# Altium footprint library HZK_Connectors.PcbLib: 26 footprints (part 1 of 2)
Each footprint in its own frame and in the unit in brackets; x right, y up, seen from the top. Pads: shape width x height; smd on the part's side, far side on the other; paste and mask are expansions set on the pad; w line width, h text height; cw(c..) or ccw(c..) is an arc to the next point about the centre after c.
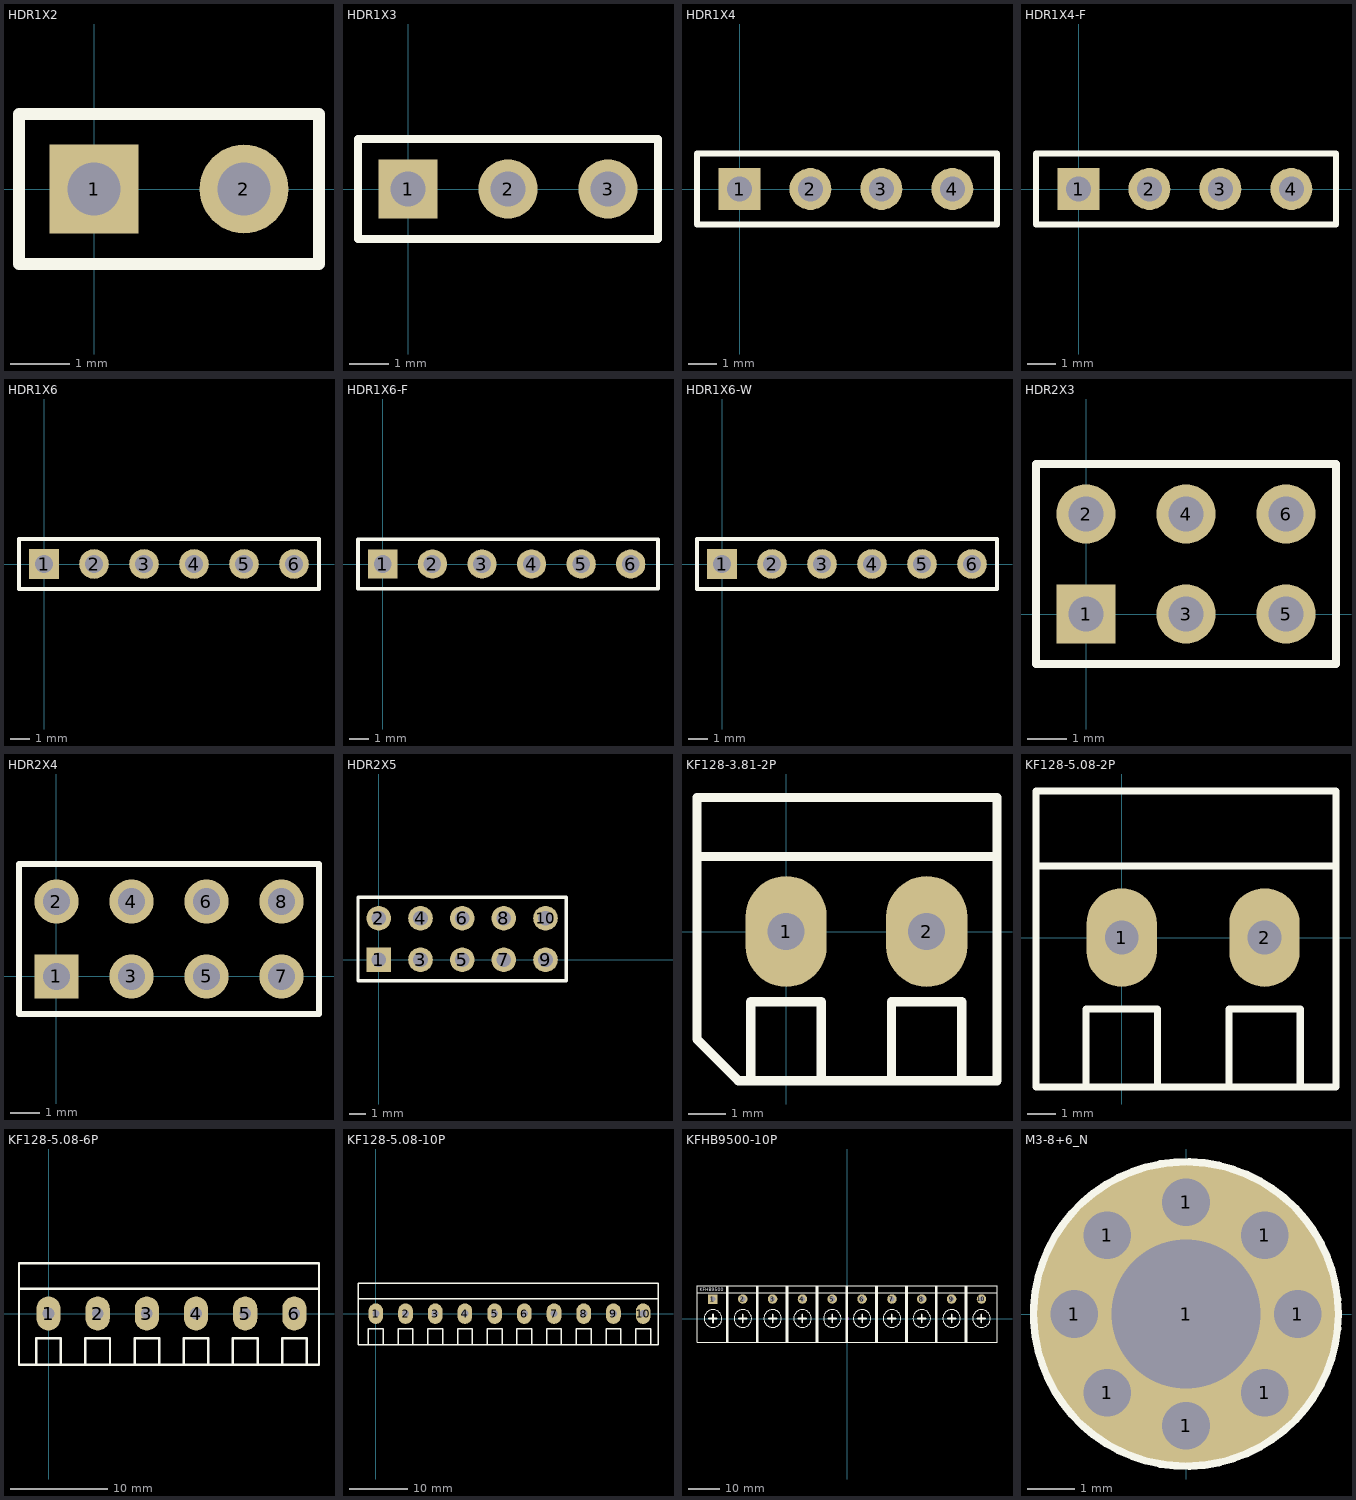
[diagram p0: the footprints below, top view; thin cyan lines are the x and y axes]

## HDR1X2 [mm]
pads (2):
  rect 1.5x1.5 hole 0.9: 1(0,0)
  round 1.5 hole 0.9: 2(2.54,0)
Top Overlay:
  lines w0.2: -1.27,-1.27 3.81,-1.27 3.81,1.27 -1.27,1.27 -1.27,-1.27
3D body "Header 2x1 2.54mm（?": height 2.57, standoff -8.97, extent -1.27,-1.27 3.81,1.27

## HDR1X3 [mm]
pads (3):
  rect 1.5x1.5 hole 0.9: 1(0,0)
  round 1.5 hole 0.9: 2(2.54,0) 3(5.08,0)
Top Overlay:
  lines w0.2: -1.27,-1.27 -1.27,1.27 6.35,1.27 6.35,-1.27 -1.27,-1.27
3D body "Header 3x1 2.54mm（?": height 2.57, standoff -8.97, extent -1.27,-1.27 6.35,1.27

## HDR1X4 [mm]
pads (4):
  rect 1.5x1.5 hole 0.9: 1(0,0)
  round 1.5 hole 0.9: 2(2.54,0) 3(5.08,0) 4(7.62,0)
Top Overlay:
  lines w0.2: -1.524,-1.27 9.22,-1.27 9.22,1.27 -1.524,1.27 -1.524,-1.27
3D body "Header 4x1 2.54mm（?": height 8.57, standoff -2.97, extent -1.27,-1.27 8.89,1.27

## HDR1X4-F [mm]
pads (4):
  rect 1.5x1.5 hole 0.9: 1(0,0)
  round 1.5 hole 0.9: 2(2.54,0) 3(5.08,0) 4(7.62,0)
Top Overlay:
  lines w0.2: -1.524,-1.27 9.22,-1.27 9.22,1.27 -1.524,1.27 -1.524,-1.27
3D body "Header 4x1 2.54mm Female Socket （?": height 8.45, standoff -3.15, extent -1.491,-1.25 9.169,1.25

## HDR1X6 [mm]
pads (6):
  rect 1.5x1.5 hole 0.9: 1(0,0)
  round 1.5 hole 0.9: 2(2.54,0) 3(5.08,0) 4(7.62,0) 5(10.16,0) 6(12.7,0)
Top Overlay:
  lines w0.2: -1.27,-1.27 -1.27,1.27 13.97,1.27 13.97,-1.27 -1.27,-1.27
3D body "Header 6x1 2.54mm（?": height 8.58, standoff -2.96, extent -1.27,-1.27 13.97,1.27

## HDR1X6-F [mm]
pads (6):
  rect 1.5x1.5 hole 0.9: 1(0,0)
  round 1.5 hole 0.9: 2(2.54,0) 3(5.08,0) 4(7.62,0) 5(10.16,0) 6(12.7,0)
Top Overlay:
  lines w0.2: -1.27,-1.27 -1.27,1.27 14.097,1.27 14.097,-1.27 -1.27,-1.27
3D body "Header 6x1 2.54mm Female Socket （?": height 8.55, standoff -3.06, extent -1.465,-1.281 14.275,1.219

## HDR1X6-W [mm]
pads (6):
  rect 1.5x1.5 hole 0.9: 1(0,0)
  round 1.5 hole 0.9: 2(2.54,0) 3(5.08,0) 4(7.62,0) 5(10.16,0) 6(12.7,0)
Top Overlay:
  lines w0.2: -1.27,-1.27 13.97,-1.27 13.97,1.27 -1.27,1.27 -1.27,-1.27
3D body "Header 6x1 2.54mm-Wan（?": height 2.57, standoff -2.97, extent -1.245,-0.33 13.995,10.03

## HDR2X3 [mm]
pads (6):
  rect 1.5x1.5 hole 0.9: 1(0,0)
  round 1.5 hole 0.9: 2(0,2.54) 3(2.54,0) 4(2.54,2.54) 5(5.08,0) 6(5.08,2.54)
Top Overlay:
  lines w0.2: -1.27,-1.27 6.35,-1.27 6.35,3.81 -1.27,3.81 -1.27,-1.27
3D body "Header 3x2 2.54mm（?": height 8.54, standoff -3, extent -1.27,-1.27 6.35,3.81

## HDR2X4 [mm]
pads (8):
  rect 1.5x1.5 hole 0.9: 1(0,0)
  round 1.5 hole 0.9: 2(0,2.54) 3(2.54,0) 4(2.54,2.54) 5(5.08,0) 6(5.08,2.54) 7(7.62,0) 8(7.62,2.54)
Top Overlay:
  lines w0.2: -1.27,-1.27 -1.27,3.81 8.89,3.81 8.89,-1.27 -1.27,-1.27
3D body "Header 4x2 2.54mm（?": height 8.54, standoff -3, extent -1.27,-1.27 8.89,3.81

## HDR2X5 [mm]
pads (10):
  rect 1.5x1.5 hole 0.9: 1(0,0)
  round 1.5 hole 0.9: 2(0,2.54) 3(2.54,0) 4(2.54,2.54) 5(5.08,0) 6(5.08,2.54) 7(7.62,0) 8(7.62,2.54) 9(10.16,0) 10(10.16,2.54)
Top Overlay:
  lines w0.2: -1.27,-1.27 -1.27,3.81 11.43,3.81 11.43,-1.27 -1.27,-1.27
3D body "Header 5x2 2.54mm（?": height 8.54, standoff -3, extent -1.27,-1.27 11.43,3.81

## KF128-3.81-2P [mm] "螺钉式接线端子，脚距3.81mm"
pads (2):
  oval 2.2x3 hole 1: 1(0,0) 2(3.81,0)
Top Overlay:
  lines w0.254: -2.413,2.032 5.715,2.032 ; -0.953,-4.039 -0.953,-1.905 0.953,-1.905 0.953,-4.039 ; 2.857,-4.039 2.857,-1.905 4.763,-1.905 4.763,-4.039 ; -2.413,-2.921 -2.413,3.632 5.715,3.632 5.715,-4.039 -1.295,-4.039 -2.413,-2.921
3D body "KF128.STEP": height 8.55, standoff -3.95, extent 1.405,-3.9 5.715,3.5
3D body "KF128.STEP": height 8.55, standoff -3.95, extent -2.405,-3.9 1.905,3.5

## KF128-5.08-2P [mm] "螺钉式接线端子，脚距5.08mm"
pads (2):
  oval 2.5x3.5 hole 1.2: 1(0,0) 2(5.08,0)
Top Overlay:
  lines w0.254: -3.048,2.54 7.62,2.54 ; -1.27,-5.309 -1.27,-2.54 1.27,-2.54 1.27,-5.309 ; 3.81,-5.309 3.81,-2.54 6.35,-2.54 6.35,-5.309 ; -3.048,-5.309 7.62,-5.309 7.62,5.207 -3.048,5.207 -3.048,-5.309
3D body "KF128-5.08.STEP": height 14.15, standoff -3.95, extent 2.04,-5.3 7.62,5.2
3D body "KF128-5.08.STEP": height 14.15, standoff -3.95, extent -3.04,-5.3 2.54,5.2

## KF128-5.08-6P [mm] "螺钉式接线端子，脚距5.08mm"
pads (6):
  oval 2.5x3.5 hole 1.2: 1(0,0) 2(5.08,0) 3(10.16,0) 4(15.24,0) 5(20.32,0) 6(25.4,0)
Top Overlay:
  lines w0.254: -3.048,2.54 27.94,2.54 ; -1.27,-5.309 -1.27,-2.54 1.27,-2.54 1.27,-5.309 ; 3.81,-5.309 3.81,-2.54 6.35,-2.54 6.35,-5.309 ; 8.89,-5.309 8.89,-2.54 11.43,-2.54 11.43,-5.309 ; 13.97,-5.309 13.97,-2.54 16.51,-2.54 16.51,-5.309 ; 19.05,-5.309 19.05,-2.54 21.59,-2.54 21.59,-5.309 ; 24.13,-5.309 24.13,-2.54 26.67,-2.54 26.67,-5.309 ; -3.048,-5.309 -3.048,5.207 27.94,5.207 27.94,-5.309 -3.048,-5.309
3D body "KF128-5.08.STEP": height 14.15, standoff -3.95, extent 22.36,-5.3 27.94,5.2
3D body "KF128-5.08.STEP": height 14.15, standoff -3.95, extent 7.12,-5.3 12.7,5.2
3D body "KF128-5.08.STEP": height 14.15, standoff -3.95, extent -3.04,-5.3 2.54,5.2
3D body "KF128-5.08.STEP": height 14.15, standoff -3.95, extent 2.04,-5.3 7.62,5.2
3D body "KF128-5.08.STEP": height 14.15, standoff -3.95, extent 12.2,-5.3 17.78,5.2
3D body "KF128-5.08.STEP": height 14.15, standoff -3.95, extent 17.28,-5.3 22.86,5.2

## KF128-5.08-10P [mm] "螺钉式接线端子，脚距5.08mm"
pads (10):
  oval 2.5x3.5 hole 1.2: 1(0,0) 2(5.08,0) 3(10.16,0) 4(15.24,0) 5(20.32,0) 6(25.4,0) 7(30.48,0) 8(35.56,0) 9(40.64,0) 10(45.72,0)
Top Overlay:
  lines w0.254: -3.048,2.54 48.26,2.54 ; -1.27,-5.309 -1.27,-2.54 1.27,-2.54 1.27,-5.309 ; 3.81,-5.309 3.81,-2.54 6.35,-2.54 6.35,-5.309 ; 8.89,-5.309 8.89,-2.54 11.43,-2.54 11.43,-5.309 ; 13.97,-5.309 13.97,-2.54 16.51,-2.54 16.51,-5.309 ; 19.05,-5.309 19.05,-2.54 21.59,-2.54 21.59,-5.309 ; 24.13,-5.309 24.13,-2.54 26.67,-2.54 26.67,-5.309 ; 29.21,-5.309 29.21,-2.54 31.75,-2.54 31.75,-5.309 ; 34.29,-5.309 34.29,-2.54 36.83,-2.54 36.83,-5.309 ; 39.37,-5.309 39.37,-2.54 41.91,-2.54 41.91,-5.309 ; 44.45,-5.309 44.45,-2.54 46.99,-2.54 46.99,-5.309 ; -3.048,-5.309 -3.048,5.207 48.26,5.207 48.26,-5.309 -3.048,-5.309
3D body "KF128-5.08.STEP": height 14.15, standoff -3.95, extent 42.68,-5.3 48.26,5.2
3D body "KF128-5.08.STEP": height 14.15, standoff -3.95, extent 32.52,-5.3 38.1,5.2
3D body "KF128-5.08.STEP": height 14.15, standoff -3.95, extent 22.36,-5.3 27.94,5.2
3D body "KF128-5.08.STEP": height 14.15, standoff -3.95, extent 7.12,-5.3 12.7,5.2
3D body "KF128-5.08.STEP": height 14.15, standoff -3.95, extent -3.04,-5.3 2.54,5.2
3D body "KF128-5.08.STEP": height 14.15, standoff -3.95, extent 2.04,-5.3 7.62,5.2
3D body "KF128-5.08.STEP": height 14.15, standoff -3.95, extent 12.2,-5.3 17.78,5.2
3D body "KF128-5.08.STEP": height 14.15, standoff -3.95, extent 17.28,-5.3 22.86,5.2
3D body "KF128-5.08.STEP": height 14.15, standoff -3.95, extent 27.44,-5.3 33.02,5.2
3D body "KF128-5.08.STEP": height 14.15, standoff -3.95, extent 37.6,-5.3 43.18,5.2

## KFHB9500-10P [mm] "长：18mm，宽：95.1mm，高：14"
pads (10):
  rect 3x3 hole 1.6: 1(-42.75,6.2)
  round 3 hole 1.6: 2(-33.25,6.2) 3(-23.75,6.2) 4(-14.25,6.2) 5(-4.75,6.2) 6(4.75,6.2) 7(14.25,6.2) 8(23.75,6.2) 9(33.25,6.2) 10(42.75,6.2)
Top Overlay:
  circle w0.254: c42.75,0 r2.8
  circle w0.254: c33.25,0 r2.8
  circle w0.254: c14.25,0 r2.8
  circle w0.254: c-4.75,0 r2.8
  circle w0.254: c-14.25,0 r2.8
  circle w0.254: c-42.75,0 r2.8
  circle w0.254: c-33.25,0 r2.8
  circle w0.254: c-23.75,0 r2.8
  circle w0.254: c4.75,0 r2.8
  circle w0.254: c23.75,0 r2.8
  lines w0.254: -47.83,8.128 -37.924,8.128 ; -38.33,8.128 -28.424,8.128 ; -38.076,-7.62 -38.076,10.5 ; -28.83,8.128 -18.924,8.128 ; -28.576,-7.62 -28.576,10.5 ; -28.397,-7.62 -28.397,10.5 ; -19.33,8.128 -9.424,8.128 ; -19.076,-7.62 -19.076,10.5 ; -18.897,-7.62 -18.897,10.5 ; -9.83,8.128 0.076,8.128 ; -9.576,-7.62 -9.576,10.5 ; -9.397,-7.62 -9.397,10.5 ; -0.33,8.128 9.576,8.128 ; -0.076,-7.62 -0.076,10.5 ; 0.103,-7.62 0.103,10.5 ; 9.17,8.128 19.076,8.128 ; 9.424,-7.62 9.424,10.5 ; 9.603,-7.62 9.603,10.5 ; 18.67,8.128 28.576,8.128 ; 18.924,-7.62 18.924,10.5 ; 19.103,-7.62 19.103,10.5 ; 28.17,8.128 38.076,8.128 ; 28.424,-7.62 28.424,10.5 ; 28.603,-7.62 28.603,10.5 ; 37.67,8.128 47.576,8.128 ; 37.924,-7.62 37.924,10.5 ; 38.103,-7.62 38.103,10.5 ; -18.797,-7.62 -18.797,10.5 ; -18.797,-7.62 -18.797,10.5 ; -18.797,-7.62 -28.83,-7.62 -28.83,10.5 -18.797,10.5 ; -9.297,-7.62 -9.297,10.5 ; -9.297,-7.62 -9.297,10.5 ; -9.297,-7.62 -19.33,-7.62 -19.33,10.5 -9.297,10.5 ; -9.297,-7.62 -9.297,10.5 ; 0.203,-7.62 0.203,10.5 ; 0.203,-7.62 -9.83,-7.62 -9.83,10.5 0.203,10.5 ; 0.203,-7.62 0.203,10.5 ; 0.203,-7.62 0.203,10.5 ; 0.203,-7.62 0.203,10.5 ; 9.703,-7.62 9.703,10.5 ; 9.703,-7.62 9.703,10.5 ; 9.703,-7.62 9.703,10.5 ; 9.703,-7.62 9.703,10.5 ; 9.703,-7.62 -0.33,-7.62 -0.33,10.5 9.703,10.5 ; 9.703,-7.62 9.703,10.5 ; 19.203,-7.62 19.203,10.5 ; 19.203,-7.62 9.17,-7.62 9.17,10.5 19.203,10.5 ; 19.203,-7.62 19.203,10.5 ; 19.203,-7.62 19.203,10.5 ; 19.203,-7.62 19.203,10.5 ; 19.203,-7.62 19.203,10.5 ; 19.203,-7.62 19.203,10.5 ; 28.703,-7.62 28.703,10.5 ; 28.703,-7.62 28.703,10.5 ; 28.703,-7.62 28.703,10.5 ; 28.703,-7.62 28.703,10.5 ; 28.703,-7.62 28.703,10.5 ; 28.703,-7.62 28.703,10.5 ; 28.703,-7.62 18.67,-7.62 18.67,10.5 28.703,10.5 ; 28.703,-7.62 28.703,10.5 ; 38.203,-7.62 38.203,10.5 ; 38.203,-7.62 38.203,10.5 ; 38.203,-7.62 38.203,10.5 ; 38.203,-7.62 38.203,10.5 ; 38.203,-7.62 38.203,10.5 ; 38.203,-7.62 38.203,10.5 ; 38.203,-7.62 38.203,10.5 ; 38.203,-7.62 38.203,10.5 ; 38.203,-7.62 28.17,-7.62 28.17,10.5 38.203,10.5 ; -47.83,-7.62 -47.83,10.5 -37.897,10.5 -37.897,-7.62 -47.83,-7.62 ; -38.33,-7.62 -38.33,10.5 -28.297,10.5 -28.297,-7.62 -38.33,-7.62 ; 37.67,-7.62 37.67,10.5 47.703,10.5 47.703,-7.62 37.67,-7.62
  lines w0.508: -44.02,0 -41.48,0 ; -42.75,-1.27 -42.75,1.27 ; -34.52,0 -31.98,0 ; -33.25,-1.27 -33.25,1.27 ; -25.02,0 -22.48,0 ; -23.75,-1.27 -23.75,1.27 ; -15.52,0 -12.98,0 ; -14.25,-1.27 -14.25,1.27 ; -6.02,0 -3.48,0 ; -4.75,-1.27 -4.75,1.27 ; 3.48,0 6.02,0 ; 4.75,-1.27 4.75,1.27 ; 12.98,0 15.52,0 ; 14.25,-1.27 14.25,1.27 ; 22.48,0 25.02,0 ; 23.75,-1.27 23.75,1.27 ; 31.98,0 34.52,0 ; 33.25,-1.27 33.25,1.27 ; 41.48,0 44.02,0 ; 42.75,-1.27 42.75,1.27
  text "KFHB9500" at -47.017,8.763 h1.02
Mechanical 15:
  circle w0.05: c0,0 r0.35
  lines w0.05: -0.5,0 0.5,0 ; 0,-0.5 0,0.5
3D body "KFHB9500.STEP": height 14.05, standoff -3.25, extent 37.55,-7.5 47.55,10.5
3D body "KFHB9500.STEP": height 14.05, standoff -3.25, extent 28.05,-7.5 38.05,10.5
3D body "KFHB9500.STEP": height 14.05, standoff -3.25, extent 18.55,-7.5 28.55,10.5
3D body "KFHB9500.STEP": height 14.05, standoff -3.25, extent 9.05,-7.5 19.05,10.5
3D body "KFHB9500.STEP": height 14.05, standoff -3.25, extent -0.45,-7.5 9.55,10.5
3D body "KFHB9500.STEP": height 14.05, standoff -3.25, extent -9.95,-7.5 0.05,10.5
3D body "KFHB9500.STEP": height 14.05, standoff -3.25, extent -19.45,-7.5 -9.45,10.5
3D body "KFHB9500.STEP": height 14.05, standoff -3.25, extent -28.95,-7.5 -18.95,10.5
3D body "KFHB9500.STEP": height 14.05, standoff -3.25, extent -38.45,-7.5 -28.45,10.5
3D body "KFHB9500.STEP": height 14.05, standoff -3.25, extent -47.95,-7.5 -37.95,10.5

## M3-8+6_N [mil] "M3铜柱，长：8mm，螺纹长：6mm"
pads (9):
  round 40 hole 40: 1(-93.75,0) 1(-66.29,-66.29) 1(-66.29,66.29) 1(0,-93.75) 1(0,93.75) 1(66.29,-66.29) 1(66.29,66.29) 1(93.75,0)
  round 250 hole 125: 1(0,0)
Top Overlay:
  circle w10: c0,0 r125.98
3D body "M3螺母.STEP": height -15.75, standoff -106.3, extent -121.52,-106.29 121.53,106.3
3D body "M3x8+6.STEP": height 316.94, standoff -234.25, extent -106.22,-92.52 106.22,92.52